# Altium schematic symbol library Altium-DC-DC.SchLib: 24 symbols
Pins are listed as number, name and electrical type; pins without a type are passive.

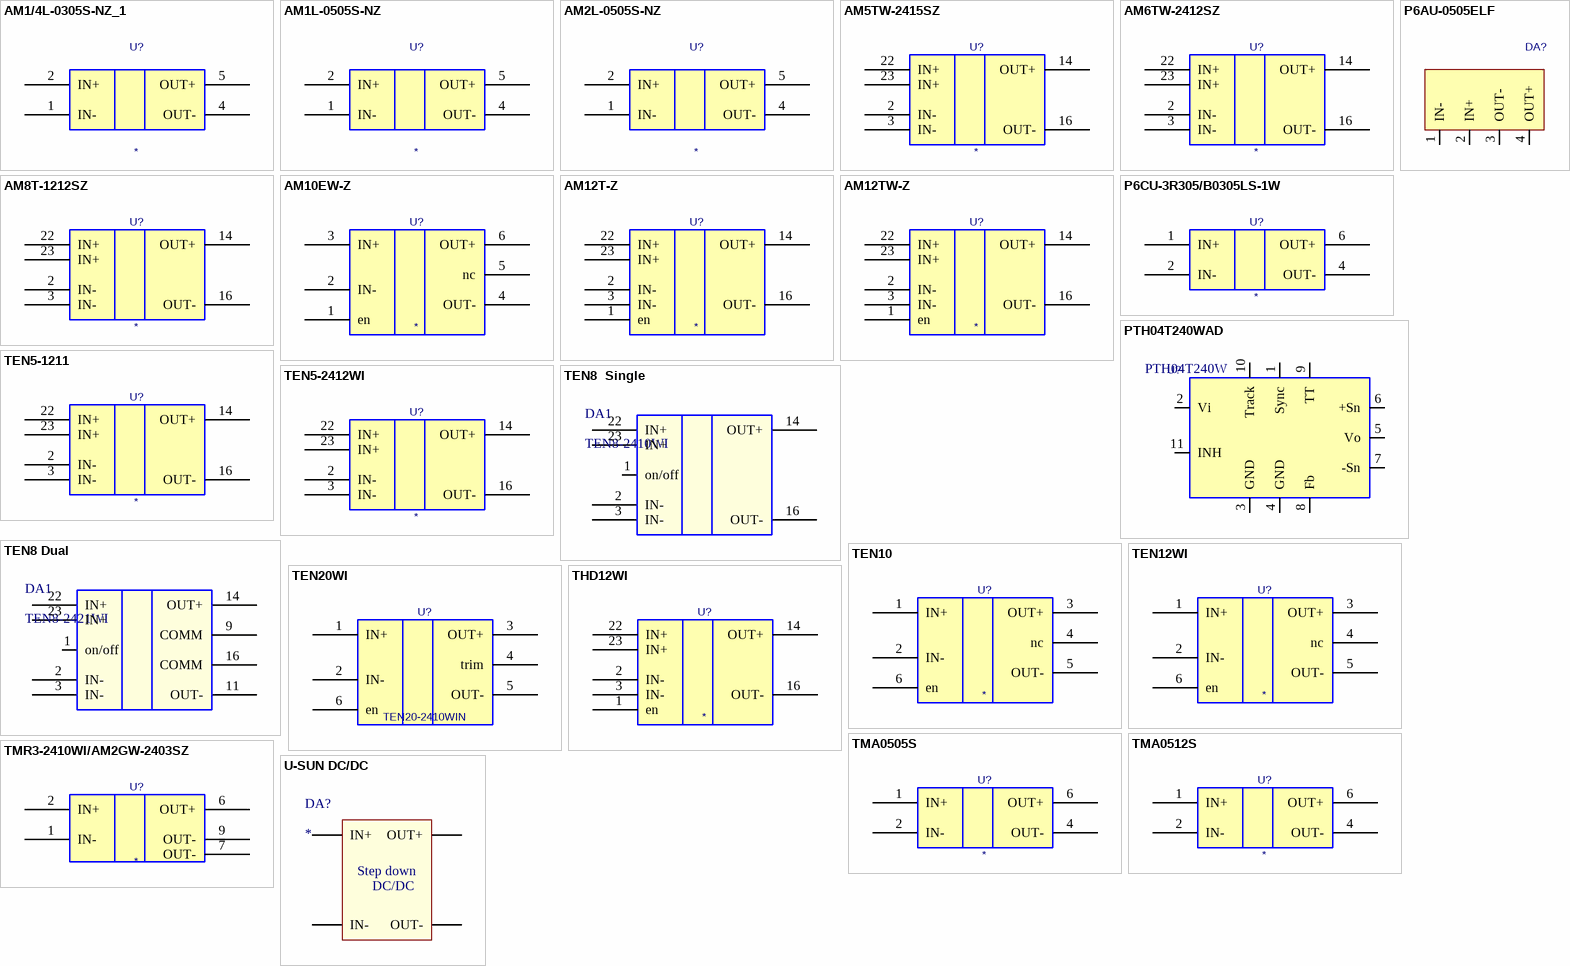
[diagram p0: symbols AM1/4L-0305S-NZ_1 to U-SUN DC/DC]

## AM1/4L-0305S-NZ_1
designator U?
0.25 Watt, DC-DC Converter, Aimtec; Value: *
footprint AIMTEC-0.25L/2LP
pins: 1 IN-, 2 IN+, 4 OUT-, 5 OUT+

## AM1L-0505S-NZ
designator U?
1 Watt, DC-DC Converter, Aimtec; Value: *
footprint AIMTEC-0.25L/2LP
pins: 1 IN-, 2 IN+, 4 OUT-, 5 OUT+

## AM2L-0505S-NZ
designator U?
2 Watt, DC-DC Converter, Aimtec; Value: *
footprint AIMTEC-0.25L/2LP
pins: 1 IN-, 2 IN+, 4 OUT-, 5 OUT+

## AM5TW-2415SZ
designator U?
15v DC-DC Converter; Value: *
footprint AIMTEC-DIP24
pins: 2 IN-, 3 IN-, 14 OUT+, 16 OUT-, 22 IN+, 23 IN+

## AM6TW-2412SZ
designator U?
12v DC-DC Converter; Value: *
footprint AIMTEC-DIP24
pins: 2 IN-, 3 IN-, 14 OUT+, 16 OUT-, 22 IN+, 23 IN+

## AM8T-1212SZ
designator U?
12v DC-DC Converter; Value: *
footprint AIMTEC-DIP24
pins: 2 IN-, 3 IN-, 14 OUT+, 16 OUT-, 22 IN+, 23 IN+

## AM10EW-Z
designator U?
10 Watt,  DC-DC Converter, Input Range 2:1, Aimtec; Value: *
footprint AIMTEC-1" X 2"
pins: 1 en, 2 IN-, 3 IN+, 4 OUT-, 5 nc, 6 OUT+

## AM12T-Z
designator U?
12 Watt,  DC-DC Converter, Input Range 2:1, Aimtec; Value: *
footprint AIMTEC-DIP24
pins: 1 en, 2 IN-, 3 IN-, 14 OUT+, 16 OUT-, 22 IN+, 23 IN+

## AM12TW-Z
designator U?
12 Watt,  DC-DC Converter, Input Range 4:1, Aimtec; Value: *
footprint AIMTEC-DIP24
pins: 1 en, 2 IN-, 3 IN-, 14 OUT+, 16 OUT-, 22 IN+, 23 IN+

## P6AU-0505ELF
designator DA?, comment P6AU-0505  (value not drawn)
1 Watt, DC-DC Converter, Peak electronics
footprint SIP4
pins: 1 IN-, 2 IN+, 3 OUT-, 4 OUT+

## P6CU-3R305/B0305LS-1W
designator U?
5v DC-DC Converter; Value: *
footprint SIP7-B0305LS
pins: 1 IN+, 2 IN-, 4 OUT-, 6 OUT+

## PTH04T240WAD
designator U?, comment PTH04T240W
10-A, 2.2-V to 5.5-V input, non-isolated,  Adj  POL; Value: PTH04T240W
footprint PTH04T240WAD (TI non isolated POL, Through-Hole Module)
pins: 1 Sync, 2 Vi, 3 GND, 4 GND, 5 Vo, 6 +Sn, 7 -Sn, 8 Fb, 9 TT, 10 Track, 11 INH

## TEN5-1211
designator U?
5v DC-DC Converter; Value: *
footprint TRACO-DIP24
pins: 2 IN-, 3 IN-, 14 OUT+, 16 OUT-, 22 IN+, 23 IN+

## TEN5-2412WI
designator U?
12v DC-DC Converter; Value: *
footprint TRACO-DIP24
pins: 2 IN-, 3 IN-, 14 OUT+, 16 OUT-, 22 IN+, 23 IN+

## TEN8  Single
designator DA1, comment TEN8-2410WI
8 Watt DC-DC Converter TracoPower; Value: TEN8-2410WI
footprint TRACO-DIP24
pins: 1 on/off, 2 IN-, 3 IN-, 14 OUT+, 16 OUT-, 22 IN+, 23 IN+

## TEN8 Dual
designator DA1, comment TEN8-2421WI
8 Watt DC-DC Converter TracoPower; Value: TEN8-2421WI
footprint TRACO-DIP24
pins: 1 on/off, 2 IN-, 3 IN-, 9 COMM, 11 OUT-, 14 OUT+, 16 COMM, 22 IN+, 23 IN+

## TEN10
designator U?
10 Watt, DC-DC Converter, Input Range 1:4, Tracopower; Value: *
footprint TRACO-1" X 2"
pins: 1 IN+, 2 IN-, 3 OUT+, 4 nc, 5 OUT-, 6 en

## TEN12WI
designator U?
12 Watt, DC-DC Converter, Input Range 1:4, Tracopower; Value: *
footprint TRACO-1" X 2"
pins: 1 IN+, 2 IN-, 3 OUT+, 4 nc, 5 OUT-, 6 en

## TEN20WI
designator U?, comment TEN20-2410WIN
20 Watt, DC-DC Converter, Input Range 4:1, Tracopower, -40/+85C; Value: TEN20-2410WIN
footprint TRACO-1" X 2"
pins: 1 IN+, 2 IN-, 3 OUT+, 4 trim, 5 OUT-, 6 en

## THD12WI
designator U?
12 Watt, DC-DC Converter, Input Range 1:4, Tracopower; Value: *
footprint TRACO-DIP24
pins: 1 en, 2 IN-, 3 IN-, 14 OUT+, 16 OUT-, 22 IN+, 23 IN+

## TMA0505S
designator U?
5v DC-DC Converter; Value: *
footprint SIP7 (Footprint not found)
pins: 1 IN+, 2 IN-, 4 OUT-, 6 OUT+

## TMA0512S
designator U?
12v DC-DC Converter; Value: *
footprint SIP7 (Footprint not found)
pins: 1 IN+, 2 IN-, 4 OUT-, 6 OUT+

## TMR3-2410WI/AM2GW-2403SZ
designator U?
3.3v DC-DC Converter; Value: *
footprint SIP8/9 (combination)
pins: 1 IN-, 2 IN+, 6 OUT+, 7 OUT-, 9 OUT-

## U-SUN DC/DC
designator DA?
3A Step down Adjustable  DC-DC Converter
footprint U-SUN DC/DC Module
footprint U-sun dc/dc
pins: 1 IN+, 2 IN-, 3 OUT+, 4 OUT-
text: Step down; DC/DC